# EAGLE library part RELE_ENCL_DPDT (library jbs-eagle-lib)
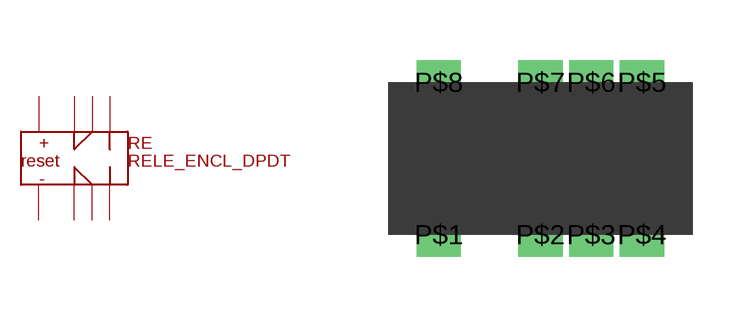
[diagram p1: symbol with the pads of RELE_ENCL_DPDT; footprint RELE_ENCL_DPDT]

Designator prefix RE

## RELE_ENCL_DPDT  [RELE_ENCL_DPDT]
P$1  P$1
P$2  P$3
P$3  P$4
P$4  P$5
P$5  P$6
P$6  P$7
P$7  P$8
P$8  P$9

## Footprint RELE_ENCL_DPDT (pad centres in mm)
drill 0.6 square: P$1 1.27,0; P$2 3.81,0; P$3 5.08,0; P$4 6.35,0; P$5 6.35,3.81; P$6 5.08,3.81; P$7 3.81,3.81; P$8 1.27,3.81